# Altium schematic symbol library ADS1115IDGS.Schlib: 1 symbol
Pins are listed as number, name and electrical type; pins without a type are passive.

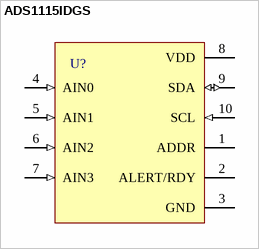
[diagram p0: symbol ADS1115IDGS]

## ADS1115IDGS
designator U?
I2C-Compatible, 860-SPS, 16Bit ADCs With Internal Reference
pins: 1 ADDR, 2 ALERT/RDY, 3 GND (power), 4 AIN0 (in), 5 AIN1 (in), 6 AIN2 (in), 7 AIN3 (in), 8 VDD (power), 9 SDA (io), 10 SCL (in)